# Altium schematic symbol library Resistor_0603.schlib: 46 symbols
Pins are listed as number, name and electrical type; pins without a type are passive.

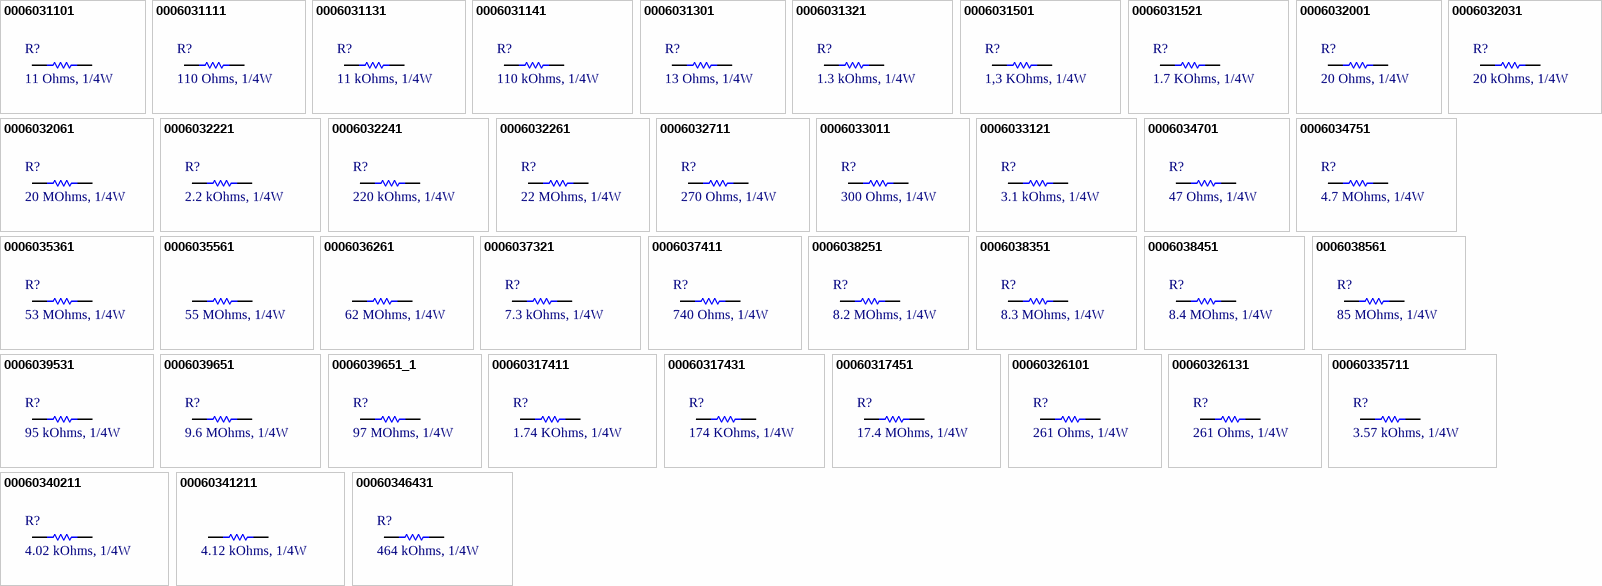
[diagram p0: symbols 0006031101 to 00060346431]

## 0006031101
designator R?, comment 11 Ohms, 1/4W
RES, 11 Ohms, size 0603, 1%; Resistance tolerance: +/-1%; Resistance: 11; Supply 1 Name: Mouser; Supply 1 SN: 667-ERJ-H3EF11R0V; Supply 2 Name: Digi-Key; Supply 2 SN: 311-11.0HRTR-ND; Size: 0603; Mounting Technology: SMT; Rated Power: 1/4 W; ComponentLink1Description: Datasheet link; ComponentLink1URL: *; Supply 1 URL: https://www.mouser.vn/ProductDetail/Panasonic/ERJ-H3EF11R0V?qs=sGAEpiMZZMtlubZbdhIBIGXWvNSLmQjehAx4Ifbz%252Bvw%3D; Supply 2 URL: https://www.digikey.com/en/products/detail/yageo/RC0603FR-0711RL/726896; Supply 3 Name: *; Supply 3 SN: *; Supply 3 URL: *
pins: 1, 2

## 0006031111
designator R?, comment 110 Ohms, 1/4W
RES, 110 Ohms, size 0603, 1%; Resistance tolerance: +/-1%; Resistance: 110; Supply 1 Name: Mouser; Supply 1 SN: 755-SDR03EZPF1100; Supply 2 Name: Digi-Key; Supply 2 SN: 13-RC0603FR-13110RLTR-ND; Size: 0603; Mounting Technology: SMT; Rated Power: 1/4 W; ComponentLink1Description: Datasheet link; ComponentLink1URL: *; Supply 1 URL: https://www.mouser.vn/ProductDetail/ROHM-Semiconductor/SDR03EZPF1100?qs=sGAEpiMZZMtlubZbdhIBIK8AeiPKd8jI%252BjeyNdNREGg%3D; Supply 2 URL: https://www.digikey.com/en/products/detail/yageo/RC0603FR-13110RL/14286378; Supply 3 Name: *; Supply 3 SN: *; Supply 3 URL: *
pins: 1, 2

## 0006031131
designator R?, comment 11 kOhms, 1/4W
RES, 11 kOhms, size 0603, 1%; Resistance tolerance: +/-1%; Resistance: 11k; Supply 1 Name: Mouser; Supply 1 SN: 755-SDR03EZPF1102; Supply 2 Name: Digi-Key; Supply 2 SN: 311-11.0KHRTR-ND; Size: 0603; Mounting Technology: SMT; Rated Power: 1/4 W; ComponentLink1Description: Datasheet link; ComponentLink1URL: *; Supply 1 URL: https://www.mouser.vn/ProductDetail/ROHM-Semiconductor/SDR03EZPF1102?qs=sGAEpiMZZMtlubZbdhIBIPTwcdbU5mXWlesgK7T9hPY%3D; Supply 2 URL: https://www.digikey.com/en/products/detail/yageo/RC0603FR-0711KL/726897; Supply 3 Name: *; Supply 3 SN: *; Supply 3 URL: *
pins: 1, 2

## 0006031141
designator R?, comment 110 kOhms, 1/4W
RES, 110 kOhms, size 0603, 1%; Resistance tolerance: +/-1%; Resistance: 110k; Supply 1 Name: Mouser; Supply 1 SN: 667-ERJ-H3EF1103V; Supply 2 Name: Digi-Key; Supply 2 SN: 311-110KHRTR-ND; Size: 0603; Mounting Technology: SMT; Rated Power: 1/4 W; ComponentLink1Description: Datasheet link; ComponentLink1URL: *; Supply 1 URL: https://www.mouser.vn/ProductDetail/Panasonic/ERJ-H3EF1103V?qs=sGAEpiMZZMtlubZbdhIBIGXWvNSLmQjenhRG9dQSCBk%3D; Supply 2 URL: https://www.digikey.com/en/products/detail/yageo/RC0603FR-07110KL/726905; Supply 3 Name: *; Supply 3 SN: *; Supply 3 URL: *
pins: 1, 2

## 0006031301
designator R?, comment 13 Ohms, 1/4W
RES, 13 Ohms, size 0603, 1%; Resistance tolerance: +/-1%; Resistance: 13; Supply 1 Name: Mouser; Supply 1 SN: 667-ERJ-H3EF13R0V; Supply 2 Name: Digi-Key; Supply 2 SN: 13-RC0603FR-1313RL-ND; Size: 0603; Mounting Technology: SMT; Rated Power: 1/4 W; ComponentLink1Description: Datasheet link; ComponentLink1URL: *; Supply 1 URL: https://www.mouser.vn/ProductDetail/Panasonic/ERJ-H3EF13R0V?qs=eP2BKZSCXI6cMaSES3PMrQ%3D%3D; Supply 2 URL: https://www.digikey.com/en/products/detail/yageo/RC0603FR-1313RL/17017125; Supply 3 Name: *; Supply 3 SN: *
pins: 1, 2

## 0006031321
designator R?, comment 1.3 kOhms, 1/4W
RES, 1.3 kOhms, size 0603, 1%; Resistance tolerance: +/-1%; Resistance: 1.3k; Supply 1 Name: Mouser; Supply 1 SN: 755-SDR03EZPF1301; Supply 2 Name: Digi-Key; Supply 2 SN: 1276-4655-2-ND; Size: 0603; Mounting Technology: SMT; Rated Power: 1/4 W; ComponentLink1Description: Datasheet link; ComponentLink1URL: *; Supply 1 URL: https://www.mouser.vn/ProductDetail/ROHM-Semiconductor/SDR03EZPF1301?qs=vvQtp7zwQdMzEJe7Zu8KXQ%3D%3D; Supply 2 URL: https://www.digikey.com/en/products/detail/samsung-electro-mechanics/RC1608F132CS/3964962; Supply 3 Name: *; Supply 3 SN: *
pins: 1, 2

## 0006031501
designator R?, comment 1,3 KOhms, 1/4W
RES, 15 Ohms, size 0603, 1%; Resistance tolerance: +/-1%; Resistance: 15; Supply 1 Name: Mouser; Supply 1 SN: 667-ERJ-UP3F15R0V; Supply 2 Name: Digi-Key; Supply 2 SN: A129666TR-ND; Size: 0603; Mounting Technology: SMT; Rated Power: 1/4 W; ComponentLink1Description: Datasheet link; ComponentLink1URL: *; Supply 1 URL: https://www.mouser.vn/ProductDetail/Panasonic/ERJ-UP3F15R0V?qs=GedFDFLaBXGQZcdT1wNdQA%3D%3D; Supply 2 URL: https://www.digikey.com/en/products/detail/te-connectivity-passive-product/CRGCQ0603F15R/8576268; Supply 3 Name: *; Supply 3 SN: *
pins: 1, 2

## 0006031521
designator R?, comment 1.7 KOhms, 1/4W
RES, 1.5 kOhms, size 0603, 1%; Resistance tolerance: +/-1%; Resistance: 1.5 k; Supply 1 Name: Mouser; Supply 1 SN: 755-SFR03EZPF1501; Supply 2 Name: Digi-Key; Supply 2 SN: 13-RC0603FR-071R5LTR-ND; Size: 0603; Mounting Technology: SMT; Rated Power: 1/4 W; ComponentLink1Description: Datasheet link; ComponentLink1URL: *; Supply 1 URL: https://www.mouser.vn/ProductDetail/ROHM-Semiconductor/SFR03EZPF1501?qs=byeeYqUIh0NryWvnzlukLQ%3D%3D; Supply 2 URL: https://www.digikey.com/en/products/detail/yageo/RC0603FR-071R5L/5918292; Supply 3 Name: *; Supply 3 SN: *
pins: 1, 2

## 0006032001
designator R?, comment 20 Ohms, 1/4W
RES, 20 Ohms, size 0603, 1%; Resistance tolerance: +/-1%; Resistance: 20; Supply 1 Name: Mouser; Supply 1 SN: 667-ERJ-H3EF20R0V; Supply 2 Name: Digi-Key; Supply 2 SN: 13-RC0603FR-1020RLTR-ND; Size: 0603; Mounting Technology: SMT; Rated Power: 1/4 W; ComponentLink1Description: Datasheet link; ComponentLink1URL: *; Supply 1 URL: https://www.mouser.vn/ProductDetail/Panasonic/ERJ-H3EF20R0V?qs=eP2BKZSCXI5MeliV8G5lXA%3D%3D; Supply 2 URL: https://www.digikey.com/en/products/detail/yageo/RC0603FR-1020RL/14008331; Supply 3 Name: *; Supply 3 SN: *
pins: 1, 2

## 0006032031
designator R?, comment 20 kOhms, 1/4W
RES, 20 kOhms, size 0603, 1%; Resistance tolerance: +/-1%; Resistance: 20 k; Supply 1 Name: Mouser; Supply 1 SN: 667-ERJ-S03F2002V; Supply 2 Name: Digi-Key; Supply 2 SN: 13-RC0603FR-1320KLTR-ND; Size: 0603; Mounting Technology: SMT; Rated Power: 1/4 W; ComponentLink1Description: Datasheet link; ComponentLink1URL: *; Supply 1 URL: https://www.mouser.vn/ProductDetail/Panasonic/ERJ-S03F2002V?qs=Zyl8A9hlmJopfTdqNIDujw%3D%3D; Supply 2 URL: https://www.digikey.com/en/products/detail/yageo/RC0603FR-1320KL/13694225; Supply 3 Name: *; Supply 3 SN: *
pins: 1, 2

## 0006032061
designator R?, comment 20 MOhms, 1/4W
RES, 20 MOhms, size 0603, 1%; Resistance tolerance: +/-1%; Resistance: 20 M; Supply 1 Name: Mouser; Supply 1 SN: 708-HVCB0603FDD20M0; Supply 2 Name: Digi-Key; Supply 2 SN: HVCB0603FDD20M0TR-ND; Size: 0603; Mounting Technology: SMT; Rated Power: 1/4 W; ComponentLink1Description: Datasheet link; ComponentLink1URL: *; Supply 1 URL: https://www.mouser.vn/ProductDetail/SEI-Stackpole/HVCB0603FDD20M0?qs=IPgv5n7u5QYFeGHIm8yl9w%3D%3D; Supply 2 URL: https://www.digikey.com/en/products/detail/stackpole-electronics-inc/HVCB0603FDD20M0/2619760; Supply 3 Name: *; Supply 3 SN: *
pins: 1, 2

## 0006032221
designator R?, comment 2.2 kOhms, 1/4W
RES, 2.2 kOhms, size 0603, 1%; Resistance tolerance: +/-1%; Resistance: 2.2 k; Supply 1 Name: Mouser; Supply 1 SN: 603-SR0603FR-7T2K2L; Supply 2 Name: Digi-Key; Supply 2 SN: 13-RC0603FR-132K2LTR-ND; Size: 0603; Mounting Technology: SMT; Rated Power: 1/4 W; ComponentLink1Description: Datasheet link; ComponentLink1URL: *; Supply 1 URL: https://www.mouser.vn/ProductDetail/YAGEO/SR0603FR-7T2K2L?qs=pfd5qewlna6SQQIuviAJZA%3D%3D; Supply 2 URL: https://www.digikey.com/en/products/detail/yageo/RC0603FR-132K2L/13694214; Supply 3 Name: *; Supply 3 SN: *
pins: 1, 2

## 0006032241
designator R?, comment 220 kOhms, 1/4W
RES, 220 kOhms, size 0603, 1%; Resistance tolerance: +/-1%; Resistance: 220 k; Supply 1 Name: Mouser; Supply 1 SN: 791-RMC1/1652-CR0603FX-2203ELF6K2303FTP; Supply 2 Name: Digi-Key; Supply 2 SN: 1292-WR06X2203FTLTR-ND; Size: 0603; Mounting Technology: SMT; Rated Power: 1/4 W; ComponentLink1Description: Datasheet link; ComponentLink1URL: *; Supply 1 URL: .moushttps://www.mouser.vn/ProductDetail/Bourns/CR0603-FX-2203ELF?qs=zx2075yZkZLnuw1SjUoEGg%3D%3D; Supply 2 URL: https://www.digikey.com/en/products/detail/walsin-technology-corporation/WR06X2203FTL/13241300; Supply 3 Name: *; Supply 3 SN: *
pins: 1, 2

## 0006032261
designator R?, comment 22 MOhms, 1/4W
RES, 22 MOhms, size 0603, 1%; Resistance tolerance: +/-1%; Resistance: 22 M; Supply 1 Name: Mouser; Supply 1 SN: 303-0603WAF2205T5E; Supply 2 Name: Digi-Key; Supply 2 SN: HVCB0603FKD22M0-ND; Size: 0603; Mounting Technology: SMT; Rated Power: 1/4 W; ComponentLink1Description: Datasheet link; ComponentLink1URL: *; Supply 1 URL: https://www.mouser.vn/ProductDetail/Royalohm/0603WAF2205T5E?qs=e8oIoAS2J1QZMv3dmftmzg%3D%3D; Supply 2 URL: https://www.digikey.com/en/products/detail/stackpole-electronics-inc/HVCB0603FKD22M0/6269316; Supply 3 Name: *; Supply 3 SN: *
pins: 1, 2

## 0006032711
designator R?, comment 270 Ohms, 1/4W
RES, 270 Ohms, size 0603, 1%; Resistance tolerance: +/-1%; Resistance: 270; Supply 1 Name: Mouser; Supply 1 SN: 755-SFR03EZPF2700; Supply 2 Name: Digi-Key; Supply 2 SN: 13-RC0603FR-13270RLTR-ND; Size: 0603; Mounting Technology: SMT; Rated Power: 1/4 W; ComponentLink1Description: Datasheet link; ComponentLink1URL: *; Supply 1 URL: https://www.mouser.vn/ProductDetail/ROHM-Semiconductor/SFR03EZPF2700?qs=MyNHzdoqoQLTAjmn%2FiOVwA%3D%3D; Supply 2 URL: https://www.digikey.com/en/products/detail/yageo/RC0603FR-13270RL/14286751; Supply 3 Name: *; Supply 3 SN: *
pins: 1, 2

## 0006033011
designator R?, comment 300 Ohms, 1/4W
RES, 300 Ohms, size 0603, 1%; Resistance tolerance: +/-1%; Resistance: 300; Supply 1 Name: Mouser; Supply 1 SN: 755-SDR03EZPF3000; Supply 2 Name: Digi-Key; Supply 2 SN: 13-RC0603FR-10300RLTR-ND; Size: 0603; Mounting Technology: SMT; Rated Power: 1/4 W; ComponentLink1Description: Datasheet link; ComponentLink1URL: *; Supply 1 URL: https://www.mouser.vn/ProductDetail/ROHM-Semiconductor/SDR03EZPF3000?qs=MyNHzdoqoQKYsGXohuNk8Q%3D%3D; Supply 2 URL: https://www.digikey.com/en/products/detail/yageo/RC0603FR-10300RL/14008461; Supply 3 Name: *; Supply 3 SN: *
pins: 1, 2

## 0006033121
designator R?, comment 3.1 kOhms, 1/4W
RES, 3.1 kOhms, size 0603, 1%; Resistance tolerance: +/-1%; Resistance: 3.1 k; Supply 1 Name: Mouser; Supply 1 SN: 652-CHP0603FX3011ELF; Supply 2 Name: Digi-Key; Supply 2 SN: MCT06030C3101FP500-ND; Size: 0603; Mounting Technology: SMT; Rated Power: 1/4 W; ComponentLink1Description: Datasheet link; ComponentLink1URL: *; Supply 1 URL: https://www.mouser.vn/ProductDetail/Bourns/CHP0603-FX-3011ELF?qs=gZXFycFWdAOzN1n7XWkwdg%3D%3D; Supply 2 URL: https://www.digikey.com/en/products/detail/vishay-beyschlag-draloric-bc-components/MCT06030C3101FP500/8124767; Supply 3 Name: *; Supply 3 SN: *
pins: 1, 2

## 0006034701
designator R?, comment 47 Ohms, 1/4W
RES, 47 Ohms, size 0603, 1%; Resistance tolerance: +/-1%; Resistance: 47; Supply 1 Name: Mouser; Supply 1 SN: 667-ERJ-UP3F47R0V; Supply 2 Name: Digi-Key; Supply 2 SN: 10-ERJ-UP3F47R0VTR-ND - Tape & Reel (TR); Size: 0603; Mounting Technology: SMT; Rated Power: 1/4 W; Datasheet: https://www.mouser.vn/datasheet/2/315/Panasonic_Resistors_Thick_Film_Anti_Sulf_Anti_Surg-1825099.pdf; ComponentLink1Description: Datasheet link; ComponentLink1URL: *; Supply 1 URL: https://www.mouser.vn/ProductDetail/Panasonic/ERJ-UP3F47R0V?qs=GedFDFLaBXE9d1Rnv%2Fokmg%3D%3D; Supply 2 URL: https://www.digikey.com/en/products/detail/panasonic-electronic-components/ERJ-UP3F47R0V/12092512?s=N4IgTCBcDaIGxwOwFoCiAlAUsgqgBQGYAxAFkXQAYA1EAXQF8g; Supply 3 Name: *; Supply 3 SN: *
pins: 1, 2

## 0006034751
designator R?, comment 4.7 MOhms, 1/4W
RES, 4.7 MOhms, size 0603, 1%; Resistance tolerance: +/-1%; Resistance: 4.7 M; Supply 1 Name: Mouser; Supply 1 SN: 755-ESR03EZPF4704; Supply 2 Name: Digi-Key; Supply 2 SN: ESR03EZPF4704-ND - Tape & Reel (TR); Size: 0603; Mounting Technology: SMT; Rated Power: 1/4 W; Datasheet: https://www.mouser.vn/datasheet/2/348/ROHM_S_A0011075102_1-2563252.pdf; ComponentLink1Description: Datasheet link; ComponentLink1URL: *; Supply 1 URL: https://www.mouser.vn/ProductDetail/ROHM-Semiconductor/ESR03EZPF4704?qs=493kPxzlxfKRPtowNexBaA%3D%3D; Supply 2 URL: https://www.digikey.com/en/products/detail/rohm-semiconductor/ESR03EZPF4704/4007245?s=N4IgTCBcDaIOwFYEFoCiBlASgBgMyoC0AFAMQBY5syQBdAXyA; Supply 3 Name: *; Supply 3 SN: *
pins: 1, 2

## 0006035361
designator R?, comment 53 MOhms, 1/4W
RES, 53 MOhms, size 0603, 1%; Resistance tolerance: +/-1%; Resistance: 53 M; Size: 0603; Mounting Technology: SMT; Rated Power: 1/4 W; Datasheet: *; ComponentLink1Description: Datasheet link; ComponentLink1URL: *; Supply 1 Name: *; Supply 1 SN: *; Supply 1 URL: *; Supply 2 Name: *; Supply 2 SN: *; Supply 2 URL: *; Supply 3 Name: *; Supply 3 SN: *; Supply 3 URL: *
pins: 1, 2

## 0006035561
designator ?, comment 55 MOhms, 1/4W
RES, 55 MOhms, size 0603, 1%; Resistance tolerance: +/-1%; Resistance: 55 M; Size: 0603; Mounting Technology: SMT; Rated Power: 1/4 W; Datasheet: *; ComponentLink1Description: Datasheet link; ComponentLink1URL: *; Supply 1 Name: *; Supply 1 SN: *; Supply 1 URL: *; Supply 2 Name: *; Supply 2 SN: *; Supply 2 URL: *; Supply 3 Name: *; Supply 3 SN: *; Supply 3 URL: *
pins: 1, 2

## 0006036261
designator ?, comment 62 MOhms, 1/4W
RES, 62 MOhms, size 0603, 1%; Resistance tolerance: +/-1%; Resistance: 62 M; Size: 0603; Mounting Technology: SMT; Rated Power: 1/4 W; Datasheet: *; ComponentLink1Description: Datasheet link; ComponentLink1URL: *; Supply 1 Name: *; Supply 1 SN: *; Supply 1 URL: *; Supply 2 Name: *; Supply 2 SN: *; Supply 2 URL: *; Supply 3 Name: *; Supply 3 SN: *
pins: 1, 2

## 0006037321
designator R?, comment 7.3 kOhms, 1/4W
RES, 7.3 kOhms, size 0603, 1%; Resistance tolerance: +/-1%; Resistance: 7.3 k; Supply 1 Name: Mouser; Supply 2 Name: Digi-Key; Size: 0603; Mounting Technology: SMT; Rated Power: 1/4 W; ComponentLink1Description: Datasheet link; ComponentLink1URL: *; Supply 1 SN: *; Supply 1 URL: *; Supply 2 SN: *; Supply 2 URL: *; Supply 3 Name: *; Supply 3 SN: *
pins: 1, 2

## 0006037411
designator R?, comment 740 Ohms, 1/4W
RES, 740 Ohms, size 0603, 1%; Resistance tolerance: +/-1%; Resistance: 740; Supply 1 Name: Mouser; Supply 2 Name: Digi-Key; Size: 0603; Mounting Technology: SMT; Rated Power: 1/4 W; ComponentLink1Description: Datasheet link; ComponentLink1URL: *; Supply 1 SN: *; Supply 1 URL: *; Supply 2 SN: *; Supply 2 URL: *; Supply 3 Name: *; Supply 3 SN: *
pins: 1, 2

## 0006038251
designator R?, comment 8.2 MOhms, 1/4W
RES, 8.2 MOhms, size 0603, 1%; Resistance tolerance: +/-1%; Resistance: 8.2 M; Supply 1 Name: Mouser; Supply 1 SN: 660-HV731JTTD8204F; Supply 2 Name: Digi-Key; Supply 2 SN: 13-RC0603FR-078M2LTR-ND; Size: 0603; Mounting Technology: SMT; Rated Power: 1/4 W; ComponentLink1Description: Datasheet link; ComponentLink1URL: *; Supply 1 URL: https://www.mouser.vn/ProductDetail/KOA-Speer/HV731JTTD8204F?qs=ZqVPfSd1khqN0teaqWW7DA%3D%3D; Supply 2 URL: https://www.digikey.com/en/products/detail/yageo/RC0603FR-078M2L/5918418; Supply 3 Name: *; Supply 3 SN: *
pins: 1, 2

## 0006038351
designator R?, comment 8.3 MOhms, 1/4W
RES, 8.3 MOhms, size 0603, 1%; Resistance tolerance: +/-1%; Resistance: 8.3 M; Supply 1 Name: Mouser; Supply 2 Name: Digi-Key; Size: 0603; Mounting Technology: SMT; Rated Power: 1/4 W; ComponentLink1Description: Datasheet link; ComponentLink1URL: *; Supply 1 SN: *; Supply 1 URL: *; Supply 2 SN: *; Supply 2 URL: *; Supply 3 Name: *; Supply 3 SN: *
pins: 1, 2

## 0006038451
designator R?, comment 8.4 MOhms, 1/4W
RES, 8.4 MOhms, size 0603, 1%; Resistance tolerance: +/-1%; Resistance: 8.4 M; Supply 1 Name: Mouser; Supply 2 Name: Digi-Key; Size: 0603; Mounting Technology: SMT; Rated Power: 1/4 W; ComponentLink1Description: Datasheet link; ComponentLink1URL: *; Supply 1 SN: *; Supply 1 URL: *; Supply 2 SN: *; Supply 2 URL: *; Supply 3 Name: *; Supply 3 SN: *
pins: 1, 2

## 0006038561
designator R?, comment 85 MOhms, 1/4W
RES, 85 MOhms, size 0603, 1%; Resistance tolerance: +/-1%; Resistance: 85 M; Supply 1 Name: Mouser; Supply 2 Name: Digi-Key; Size: 0603; Mounting Technology: SMT; Rated Power: 1/4 W; ComponentLink1Description: Datasheet link; ComponentLink1URL: *; Supply 1 SN: *; Supply 1 URL: *; Supply 2 SN: *; Supply 2 URL: *; Supply 3 Name: *; Supply 3 SN: *
pins: 1, 2

## 0006039531
designator R?, comment 95 kOhms, 1/4W
RES, 95 kOhms, size 0603, 1%; Resistance tolerance: +/-1%; Resistance: 95 k; Supply 1 Name: Mouser; Supply 2 Name: Digi-Key; Size: 0603; Mounting Technology: SMT; Rated Power: 1/4 W; ComponentLink1Description: Datasheet link; ComponentLink1URL: *; Supply 1 SN: *; Supply 1 URL: *; Supply 2 SN: *; Supply 2 URL: *; Supply 3 Name: *; Supply 3 SN: *
pins: 1, 2

## 0006039651
designator R?, comment 9.6 MOhms, 1/4W
RES, 9.6 MOhms, size 0603, 1%; Resistance tolerance: +/-1%; Resistance: 9.6 M; Supply 1 Name: Mouser; Supply 2 Name: Digi-Key; Size: 0603; Mounting Technology: SMT; Rated Power: 1/4 W; ComponentLink1Description: Datasheet link; ComponentLink1URL: *; Supply 1 SN: *; Supply 1 URL: *; Supply 2 SN: *; Supply 2 URL: *; Supply 3 Name: *; Supply 3 SN: *
pins: 1, 2

## 0006039651_1
designator R?, comment 97 MOhms, 1/4W
RES, 97 MOhms, size 0603, 1%; Resistance tolerance: +/-1%; Resistance: 97 M; Supply 1 Name: Mouser; Supply 2 Name: Digi-Key; Size: 0603; Mounting Technology: SMT; Rated Power: 1/4 W; ComponentLink1Description: Datasheet link; ComponentLink1URL: *; Supply 1 SN: *; Supply 1 URL: *; Supply 2 SN: *; Supply 2 URL: *; Supply 3 Name: *; Supply 3 SN: *
pins: 1, 2

## 00060317411
designator R?, comment 1.74 KOhms, 1/4W
RES, 1.74 kOhms, size 0603, 1%; Resistance tolerance: +/-1%; Resistance: 1.74 k; Supply 1 Name: Mouser; Supply 1 SN: 652-CR0603FX-1741ELF; Supply 2 Name: Digi-Key; Supply 2 SN: 311-1.74KHRTR-ND; Size: 0603; Mounting Technology: SMT; Rated Power: 1/4 W; ComponentLink1Description: Datasheet link; ComponentLink1URL: *; Supply 1 URL: https://www.mouser.vn/ProductDetail/Bourns/CR0603-FX-1741ELF?qs=zx2075yZkZJRxafDX05PxQ%3D%3D; Supply 2 URL: https://www.digikey.com/en/products/detail/yageo/RC0603FR-071K74L/726872; Supply 3 Name: *; Supply 3 SN: *
pins: 1, 2

## 00060317431
designator R?, comment 174 KOhms, 1/4W
RES, 174 kOhms, size 0603, 1%; Resistance tolerance: +/-1%; Resistance: 174 k; Supply 1 Name: Mouser; Supply 1 SN: 652-CR0603FX-1743ELF; Supply 2 Name: Digi-Key; Supply 2 SN: 311-174KHRTR-ND; Size: 0603; Mounting Technology: SMT; Rated Power: 1/4 W; ComponentLink1Description: Datasheet link; ComponentLink1URL: *; Supply 1 URL: https://www.mouser.vn/ProductDetail/Bourns/CR0603-FX-1743ELF?qs=zx2075yZkZJGZPfH16YNVA%3D%3D; Supply 2 URL: https://www.digikey.com/en/products/detail/yageo/RC0603FR-07174KL/726985; Supply 3 Name: *; Supply 3 SN: *
pins: 1, 2

## 00060317451
designator R?, comment 17.4 MOhms, 1/4W
RES, 17.4 MOhms, size 0603, 1%; Resistance tolerance: +/-1%; Resistance: 174 M; Supply 1 Name: Mouser; Supply 1 SN: 303-0603WAF1745T5E; Supply 2 Name: Digi-Key; Size: 0603; Mounting Technology: SMT; Rated Power: 1/4 W; ComponentLink1Description: Datasheet link; ComponentLink1URL: *; Supply 1 URL: https://www.mouser.vn/ProductDetail/Royalohm/0603WAF1745T5E?qs=e8oIoAS2J1TZruGg9o9nsw%3D%3D; Supply 2 SN: *; Supply 2 URL: *; Supply 3 Name: *; Supply 3 SN: *
pins: 1, 2

## 00060326101
designator R?, comment 261 Ohms, 1/4W
RES, 261 Ohms, size 0603, 1%; Resistance tolerance: +/-1%; Resistance: 261; Supply 1 Name: Mouser; Supply 1 SN: 652-CR0603FX-2610ELF; Supply 2 Name: Digi-Key; Supply 2 SN: 311-261HRTR-ND; Size: 0603; Mounting Technology: SMT; Rated Power: 1/4 W; ComponentLink1Description: Datasheet link; ComponentLink1URL: *; Supply 1 URL: https://www.mouser.vn/ProductDetail/Bourns/CR0603-FX-2610ELF?qs=I4suiNu8FYAPozqcSssc3g%3D%3D; Supply 2 URL: https://www.digikey.com/en/products/detail/yageo/RC0603FR-07261RL/727095; Supply 3 Name: *; Supply 3 SN: *
pins: 1, 2

## 00060326131
designator R?, comment 261 Ohms, 1/4W
RES, 261 kOhms, size 0603, 1%; Resistance tolerance: +/-1%; Resistance: 261 k; Supply 1 Name: Mouser; Supply 1 SN: 71-CRCW0603-261K-E3; Supply 2 Name: Digi-Key; Supply 2 SN: 311-261KHRTR-ND; Size: 0603; Mounting Technology: SMT; Rated Power: 1/4 W; ComponentLink1Description: Datasheet link; ComponentLink1URL: *; Supply 1 URL: https://www.mouser.vn/ProductDetail/Vishay-Dale/CRCW0603261KFKEA?qs=ZY%2FA15UmqnC8j%252BzPQatghA%3D%3D; Supply 2 URL: https://www.digikey.com/en/products/detail/yageo/RC0603FR-07261KL/727096; Supply 3 Name: *; Supply 3 SN: *
pins: 1, 2

## 00060335711
designator R?, comment 3.57 kOhms, 1/4W
RES, 3.57 kOhms, size 0603, 1%; Resistance tolerance: +/-1%; Resistance: 3.57 k; Supply 1 Name: Mouser; Supply 1 SN: 755-SDR03EZPF3571; Supply 2 Name: Digi-Key; Supply 2 SN: 311-3.57KHRTR-ND; Size: 0603; Mounting Technology: SMT; Rated Power: 1/4 W; ComponentLink1Description: Datasheet link; ComponentLink1URL: *; Supply 1 URL: https://www.mouser.vn/ProductDetail/ROHM-Semiconductor/SDR03EZPF3571?qs=MyNHzdoqoQLQWlSf8qqG2w%3D%3D; Supply 2 URL: https://www.digikey.com/en/products/detail/yageo/RC0603FR-073K57L/727131; Supply 3 Name: *; Supply 3 SN: *
pins: 1, 2

## 00060340211
designator R?, comment 4.02 kOhms, 1/4W
RES, 4.02 kOhms, size 0603, 1%; Resistance tolerance: +/-1%; Resistance: 4.02 k; Supply 1 Name: Mouser; Supply 1 SN: 71-CRCW0603-4.02K-E3; Supply 2 Name: Digi-Key; Supply 2 SN: 311-4.02KHRTR-ND; Size: 0603; Mounting Technology: SMT; Rated Power: 1/4 W; ComponentLink1Description: Datasheet link; ComponentLink1URL: *; Supply 1 URL: https://www.mouser.vn/ProductDetail/Vishay-Dale/CRCW06034K02FKEA?qs=ePVmox3SMzYmoL%252BtsFsAuw%3D%3D; Supply 2 URL: https://www.digikey.com/en/products/detail/yageo/RC0603FR-074K02L/727203; Supply 3 Name: *; Supply 3 SN: *
pins: 1, 2

## 00060341211
designator ?, comment 4.12 kOhms, 1/4W
RES, 4.12 kOhms, size 0603, 1%; Resistance tolerance: +/-1%; Resistance: 4.12 k; Supply 1 Name: Mouser; Supply 1 SN: 71-CRCW0603-4.12K-E3; Supply 2 Name: Digi-Key; Supply 2 SN: 311-4.02KHRTR-ND; Size: 0603; Mounting Technology: SMT; Rated Power: 1/4 W; ComponentLink1Description: Datasheet link; ComponentLink1URL: *; Supply 1 URL: https://www.mouser.vn/ProductDetail/Vishay-Dale/CRCW06034K12FKEA?qs=7VR27ARAOdnkRSfILZFcCQ%3D%3D; Supply 2 URL: https://www.digikey.com/en/products/detail/yageo/RC0603FR-074K02L/727203; Supply 3 Name: *; Supply 3 SN: *
pins: 1, 2

## 00060346431
designator R?, comment 464 kOhms, 1/4W
RES, 464 kOhms, size 0603, 1%; Resistance tolerance: +/-1%; Resistance: 464 k; Supply 1 Name: Mouser; Supply 1 SN: 667-ERJ-PA3F4643V; Supply 2 Name: Digi-Key; Supply 2 SN: ERJ-PA3F4643V-ND - Tape & Reel (TR); Size: 0603; Mounting Technology: SMT; Rated Power: 1/4 W; Datasheet: https://www.mouser.vn/datasheet/2/315/AOA0000C331-1141874.pdf; ComponentLink1Description: Datasheet link; ComponentLink1URL: *; Supply 1 URL: https://www.mouser.vn/ProductDetail/Panasonic/ERJ-PA3F4643V?qs=BzJM0faLVqXNplNA4jO3ww%3D%3D; Supply 2 URL: https://www.digikey.com/en/products/detail/panasonic-electronic-components/ERJ-PA3F4643V/5038117?s=N4IgTCBcDaIGxwOwFoCiAlAUsgCgQQGYAxAFjhIIDUQBdAXyA; Supply 3 Name: *; Supply 3 SN: *
pins: 1, 2

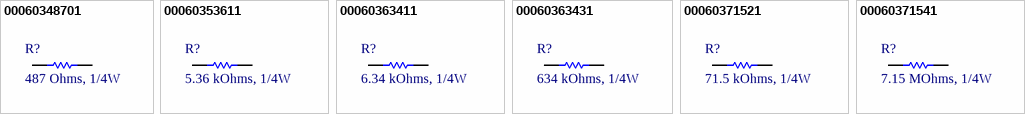
[diagram p1: symbols 00060348701 to 00060371541]

## 00060348701
designator R?, comment 487 Ohms, 1/4W
RES, 487 Ohms, size 0603, 1%; Resistance tolerance: +/-1%; Resistance: 487; Supply 1 Name: Mouser; Supply 1 SN: 667-ERJ-PA3F4870V; Supply 2 Name: Digi-Key; Supply 2 SN: ERJ-PA3F4870V-ND - Tape & Reel (TR); Size: 0603; Mounting Technology: SMT; Rated Power: 1/4 W; Datasheet: https://www.mouser.vn/datasheet/2/315/AOA0000C331-1141874.pdf; ComponentLink1Description: Datasheet link; ComponentLink1URL: *; Supply 1 URL: https://www.mouser.vn/ProductDetail/Panasonic/ERJ-PA3F4870V?qs=BzJM0faLVqXoF%252BFTbHdjOQ%3D%3D; Supply 2 URL: https://www.digikey.com/en/products/detail/panasonic-electronic-components/ERJ-PA3F4870V/5037849?s=N4IgTCBcDaIGxwOwFoCiAlAUsgCgQQGYAxAFgA5EAGANRAF0BfIA; Supply 3 Name: *; Supply 3 SN: *
pins: 1, 2

## 00060353611
designator R?, comment 5.36 kOhms, 1/4W
RES, 5.36 kOhms, size 0603, 1%; Resistance tolerance: +/-1%; Resistance: 5.36 k; Supply 1 Name: Mouser; Supply 1 SN: 667-ERJ-PA3F5361V; Supply 2 Name: Digi-Key; Supply 2 SN: ERJ-PA3F5361V-ND - Tape & Reel (TR); Size: 0603; Mounting Technology: SMT; Rated Power: 1/4 W; Datasheet: https://www.mouser.vn/datasheet/2/315/AOA0000C331-1141874.pdf; ComponentLink1Description: Datasheet link; ComponentLink1URL: *; Supply 1 URL: https://www.mouser.vn/ProductDetail/Panasonic/ERJ-PA3F5361V?qs=BzJM0faLVqV9HycZG6PMVQ%3D%3D; Supply 2 URL: https://www.digikey.com/en/products/detail/panasonic-electronic-components/ERJ-PA3F5361V/5037943?s=N4IgTCBcDaIGxwOwFoCiAlAUsgCgQQGYAxAVgLgEYA1EAXQF8g; Supply 3 Name: *; Supply 3 SN: *
pins: 1, 2

## 00060363411
designator R?, comment 6.34 kOhms, 1/4W
RES, 6.34 kOhms, size 0603, 1%; Resistance tolerance: +/-1%; Resistance: 6.34 k; Supply 1 Name: Mouser; Supply 1 SN: 652-CR0805FX-6341ELF; Supply 2 Name: Digi-Key; Supply 2 SN: 311-6.34KHRTR-ND; Size: 0603; Mounting Technology: SMT; Rated Power: 1/4 W; ComponentLink1Description: Datasheet link; ComponentLink1URL: *; Supply 1 URL: https://www.mouser.vn/ProductDetail/Bourns/CR0805-FX-6341ELF?qs=LA9FZBosJlAK7SMOW8nAHg%3D%3D; Supply 2 URL: https://www.digikey.com/en/products/detail/yageo/RC0603FR-076K34L/727320; Supply 3 Name: *; Supply 3 SN: *
pins: 1, 2

## 00060363431
designator R?, comment 634 kOhms, 1/4W
RES, 634 kOhms, size 0603, 1%; Resistance tolerance: +/-1%; Resistance: 634 k; Supply 1 Name: Mouser; Supply 1 SN: 652-CR0805FX-6343ELF; Supply 2 Name: Digi-Key; Supply 2 SN: 311-634KHRTR-ND; Size: 0603; Mounting Technology: SMT; Rated Power: 1/4 W; ComponentLink1Description: Datasheet link; ComponentLink1URL: *; Supply 1 URL: https://www.mouser.vn/ProductDetail/Bourns/CR0805-FX-6343ELF?qs=LA9FZBosJlBAKVRC2OUkqw%3D%3D; Supply 2 URL: https://www.digikey.com/en/products/detail/yageo/RC0603FR-07634KL/727342; Supply 3 Name: *; Supply 3 SN: *
pins: 1, 2

## 00060371521
designator R?, comment 71.5 kOhms, 1/4W
RES, 71.5 kOhms, size 0603, 1%; Resistance tolerance: +/-1%; Resistance: 71.5 k; Supply 1 Name: Mouser; Supply 2 Name: Digi-Key; Supply 2 SN: 311-71.5KHRTR-ND; Size: 0603; Mounting Technology: SMT; Rated Power: 1/4 W; ComponentLink1Description: Datasheet link; ComponentLink1URL: *; Supply 1 SN: *; Supply 1 URL: *; Supply 2 URL: https://www.digikey.com/en/products/detail/yageo/RC0603FR-0771K5L/727370; Supply 3 Name: *; Supply 3 SN: *
pins: 1, 2

## 00060371541
designator R?, comment 7.15 MOhms, 1/4W
RES, 7.15 MOhms, size 0603, 1%; Resistance tolerance: +/-1%; Resistance: 7.15 M; Supply 1 Name: Mouser; Supply 1 SN: 603-RC0201FR-077M15L; Supply 2 Name: Digi-Key; Supply 2 SN: 541-7.15MHTR-ND; Size: 0603; Mounting Technology: SMT; Rated Power: 1/4 W; ComponentLink1Description: Datasheet link; ComponentLink1URL: *; Supply 1 URL: https://www.mouser.vn/ProductDetail/YAGEO/RC0201FR-077M15L?qs=lc2O%252BfHJPVagYgggyyCiyg%3D%3D; Supply 2 URL: https://www.digikey.com/en/products/detail/vishay-dale/CRCW06037M15FKEA/1175108; Supply 3 Name: *; Supply 3 SN: *
pins: 1, 2